# Altium schematic symbol library Schlib.SchLib: 13 symbols
Pins are listed as number, name and electrical type; pins without a type are passive.

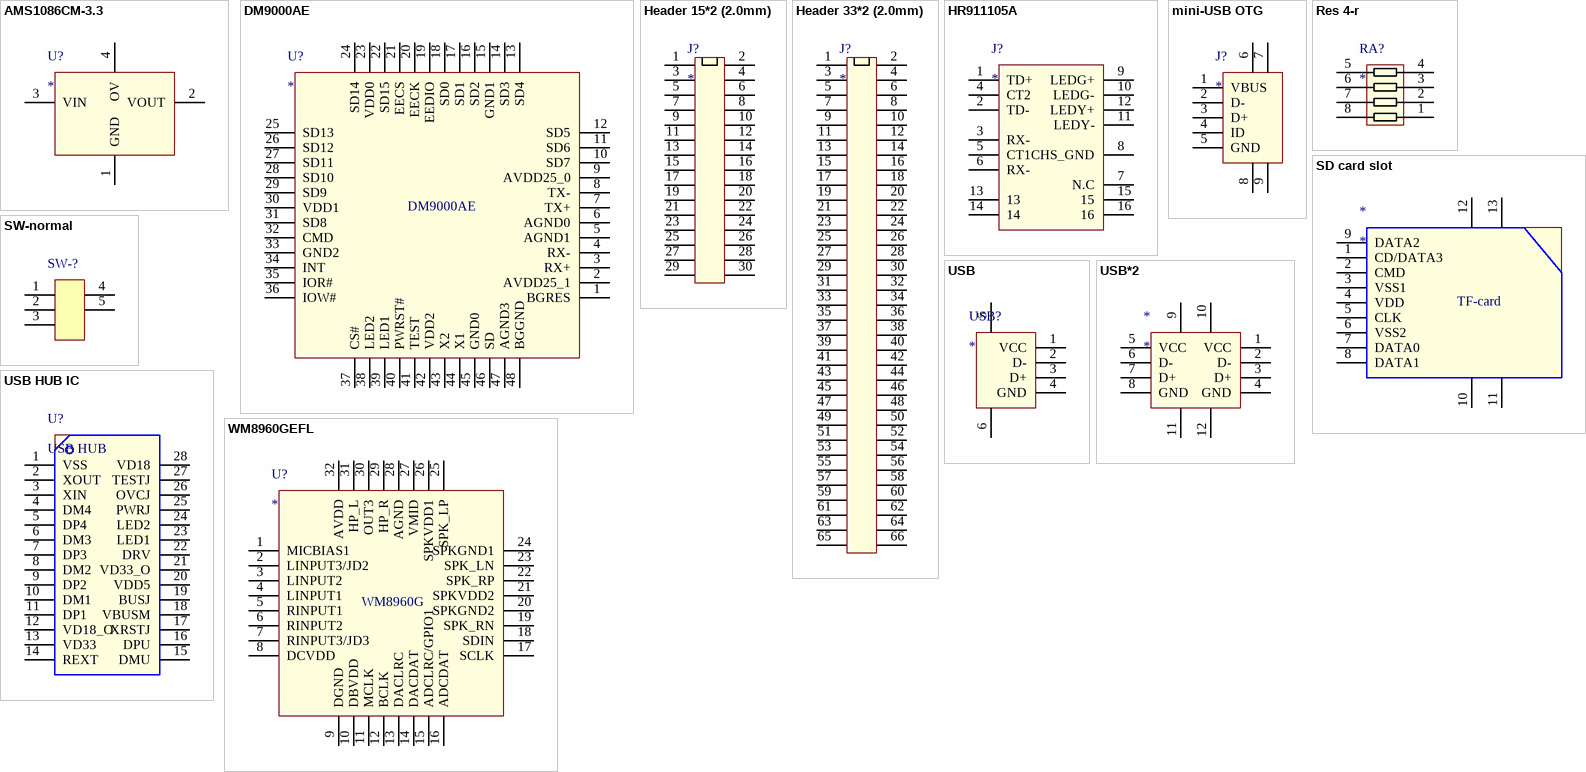
[diagram p0: symbols AMS1086CM-3.3 to WM8960GEFL]

## AMS1086CM-3.3
designator U?
pins: 1 GND, 2 VOUT, 3 VIN, 4 OV

## DM9000AE
designator U?
pins: 1 BGRES, 2 AVDD25_1, 3 RX+, 4 RX-, 5 AGND1, 6 AGND0, 7 TX+, 8 TX-, 9 AVDD25_0, 10 SD7, 11 SD6, 12 SD5, 13 SD4, 14 SD3, 15 GND1, 16 SD2, 17 SD1, 18 SD0, 19 EEDIO, 20 EECK, 21 EECS, 22 SD15, 23 VDD0, 24 SD14, 25 SD13, 26 SD12, 27 SD11, 28 SD10, 29 SD9, 30 VDD1, 31 SD8, 32 CMD, 33 GND2, 34 INT, 35 IOR#, 36 IOW#, 37 CS#, 38 LED2, 39 LED1, 40 PWRST#, 41 TEST, 42 VDD2, 43 X2, 44 X1, 45 GND0, 46 SD, 47 AGND3, 48 BGGND

## Header 15*2 (2.0mm)
designator J?
pins: 1, 2, 3, 4, 5, 6, 7, 8, 9, 10, 11, 12, 13, 14, 15, 16, 17, 18, 19, 20, 21, 22, 23, 24, 25, 26, 27, 28, 29, 30

## Header 33*2 (2.0mm)
designator J?
pins: 1, 2, 3, 4, 5, 6, 7, 8, 9, 10, 11, 12, 13, 14, 15, 16, 17, 18, 19, 20, 21, 22, 23, 24, 25, 26, 27, 28, 29, 30, 31, 32, 33, 34, 35, 36, 37, 38, 39, 40, 41, 42, 43, 44, 45, 46, 47, 48, 49, 50, 51, 52, 53, 54, 55, 56, 57, 58, 59, 60, 61, 62, 63, 64, 65, 66

## HR911105A
designator J?
100M net connector
pins: 1 TD+, 2 TD-, 3 RX-, 4 CT2, 5 CT1, 6 RX-, 7 N.C, 8 CHS_GND, 9 LEDG+, 10 LEDG-, 11 LEDY-, 12 LEDY+, 13, 14, 15, 16

## mini-USB OTG
designator J?
pins: 1 VBUS, 2 D-, 3 D+, 4 ID, 5 GND, 6, 7, 8, 9

## Res 4-r
designator RA?
pins: 1, 2, 3, 4, 5, 6, 7, 8

## SD card slot
designator *
pins: 1 CD/DATA3, 2 CMD, 3 VSS1, 4 VDD, 5 CLK, 6 VSS2, 7 DATA0, 8 DATA1, 9 DATA2, 10, 11, 12, 13
text: TF-card

## SW-normal
designator SW-?
pins: 1, 2, 3, 4, 5

## USB
designator USB?
pins: 1 VCC, 2 D-, 3 D+, 4 GND, 5, 6

## USB HUB IC
designator U?, comment USB HUB
pins: 1 VSS, 2 XOUT, 3 XIN, 4 DM4, 5 DP4, 6 DM3, 7 DP3, 8 DM2, 9 DP2, 10 DM1, 11 DP1, 12 VD18_O, 13 VD33, 14 REXT, 15 DMU, 16 DPU, 17 XRSTJ, 18 VBUSM, 19 BUSJ, 20 VDD5, 21 VD33_O, 22 DRV, 23 LED1, 24 LED2, 25 PWRJ, 26 OVCJ, 27 TESTJ, 28 VD18

## USB*2
designator *
pins: 1 VCC, 2 D-, 3 D+, 4 GND, 5 VCC, 6 D-, 7 D+, 8 GND, 9, 10, 11, 12

## WM8960GEFL
designator U?
pins: 1 MICBIAS1, 2 LINPUT3/JD2, 3 LINPUT2, 4 LINPUT1, 5 RINPUT1, 6 RINPUT2, 7 RINPUT3/JD3, 8 DCVDD, 9 DGND, 10 DBVDD, 11 MCLK, 12 BCLK, 13 DACLRC, 14 DACDAT, 15 ADCLRC/GPIO1, 16 ADCDAT, 17 SCLK, 18 SDIN, 19 SPK_RN, 20 SPKGND2, 21 SPKVDD2, 22 SPK_RP, 23 SPK_LN, 24 SPKGND1, 25 SPK_LP, 26 SPKVDD1, 27 VMID, 28 AGND, 29 HP_R, 30 OUT3, 31 HP_L, 32 AVDD
text: WM8960G